# EAGLE library part K6R1016V1C (library memory-samsung-jlb)
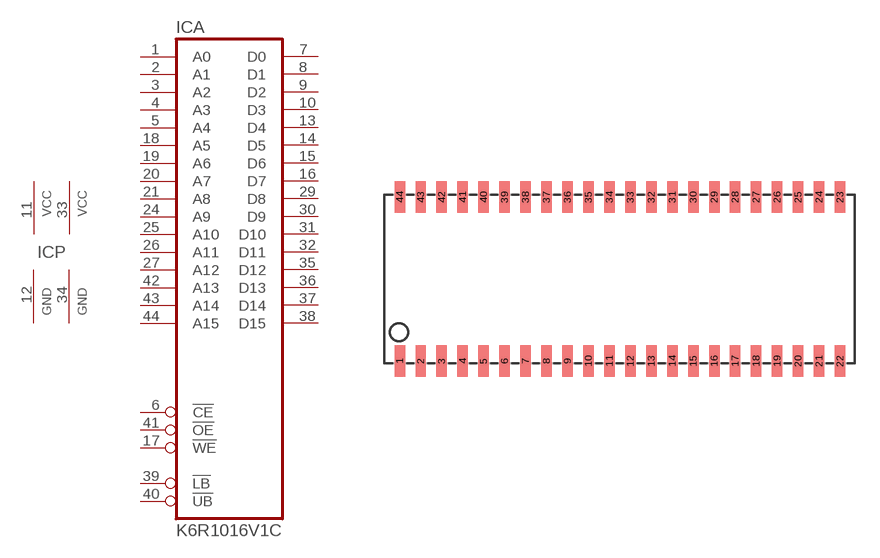
[diagram p0: symbol with the pads of SOJ44/4; footprint SOJ44/4]

Designator prefix IC; gates A=1MBIT_64KX16 P=2PWR2GND

## K6R1016V1C  [SOJ44/4]
1  A:A0  in
2  A:A1  in
3  A:A2  in
4  A:A3  in
5  A:A4  in
6  A:!CE  in
7  A:D0
8  A:D1
9  A:D2
10  A:D3
11  P:VCC  pwr
12  P:GND  pwr
13  A:D4
14  A:D5
15  A:D6
16  A:D7
17  A:!WE  in
18  A:A5  in
19  A:A6  in
20  A:A7  in
21  A:A8  in
24  A:A9  in
25  A:A10  in
26  A:A11  in
27  A:A12  in
29  A:D8
30  A:D9
31  A:D10
32  A:D11
33  P:VCC  pwr
34  P:GND  pwr
35  A:D12
36  A:D13
37  A:D14
38  A:D15
39  A:!LB  in
40  A:!UB  in
41  A:!OE  in
42  A:A13  in
43  A:A14  in
44  A:A15  in

## Footprint SOJ44/4 (pad centres in mm)
smd 0.635 x 1.905: 1 -12.7,-4.902; 2 -11.43,-4.902; 3 -10.16,-4.902; 4 -8.89,-4.902; 5 -7.62,-4.902; 6 -6.35,-4.902; 7 -5.08,-4.902; 8 -3.81,-4.902; 9 -2.54,-4.902; 10 -1.27,-4.902; 11 0,-4.902; 12 1.27,-4.902; 13 2.54,-4.902; 14 3.81,-4.902; 15 5.08,-4.902; 16 6.35,-4.902; 17 7.62,-4.902; 18 8.89,-4.902; 19 10.16,-4.902; 20 11.43,-4.902; 21 12.7,-4.902; 22 13.97,-4.902; 23 13.97,5.029; 24 12.7,5.029; 25 11.43,5.029; 26 10.16,5.029; 27 8.89,5.029; 28 7.62,5.029; 29 6.35,5.029; 30 5.08,5.029; 31 3.81,5.029; 32 2.54,5.029; 33 1.27,5.029; 34 0,5.029; 35 -1.27,5.029; 36 -2.54,5.029; 37 -3.81,5.029; 38 -5.08,5.029; 39 -6.35,5.029; 40 -7.62,5.029; 41 -8.89,5.029; 42 -10.16,5.029; 43 -11.43,5.029; 44 -12.7,5.029